# Altium footprint library Audio - Microphones.PcbLib: 11 footprints
Each footprint in its own frame and in the unit in brackets; x right, y up, seen from the top. Pads: shape width x height; smd on the part's side, far side on the other; paste and mask are expansions set on the pad; w line width, h text height; cw(c..) or ccw(c..) is an arc to the next point about the centre after c.
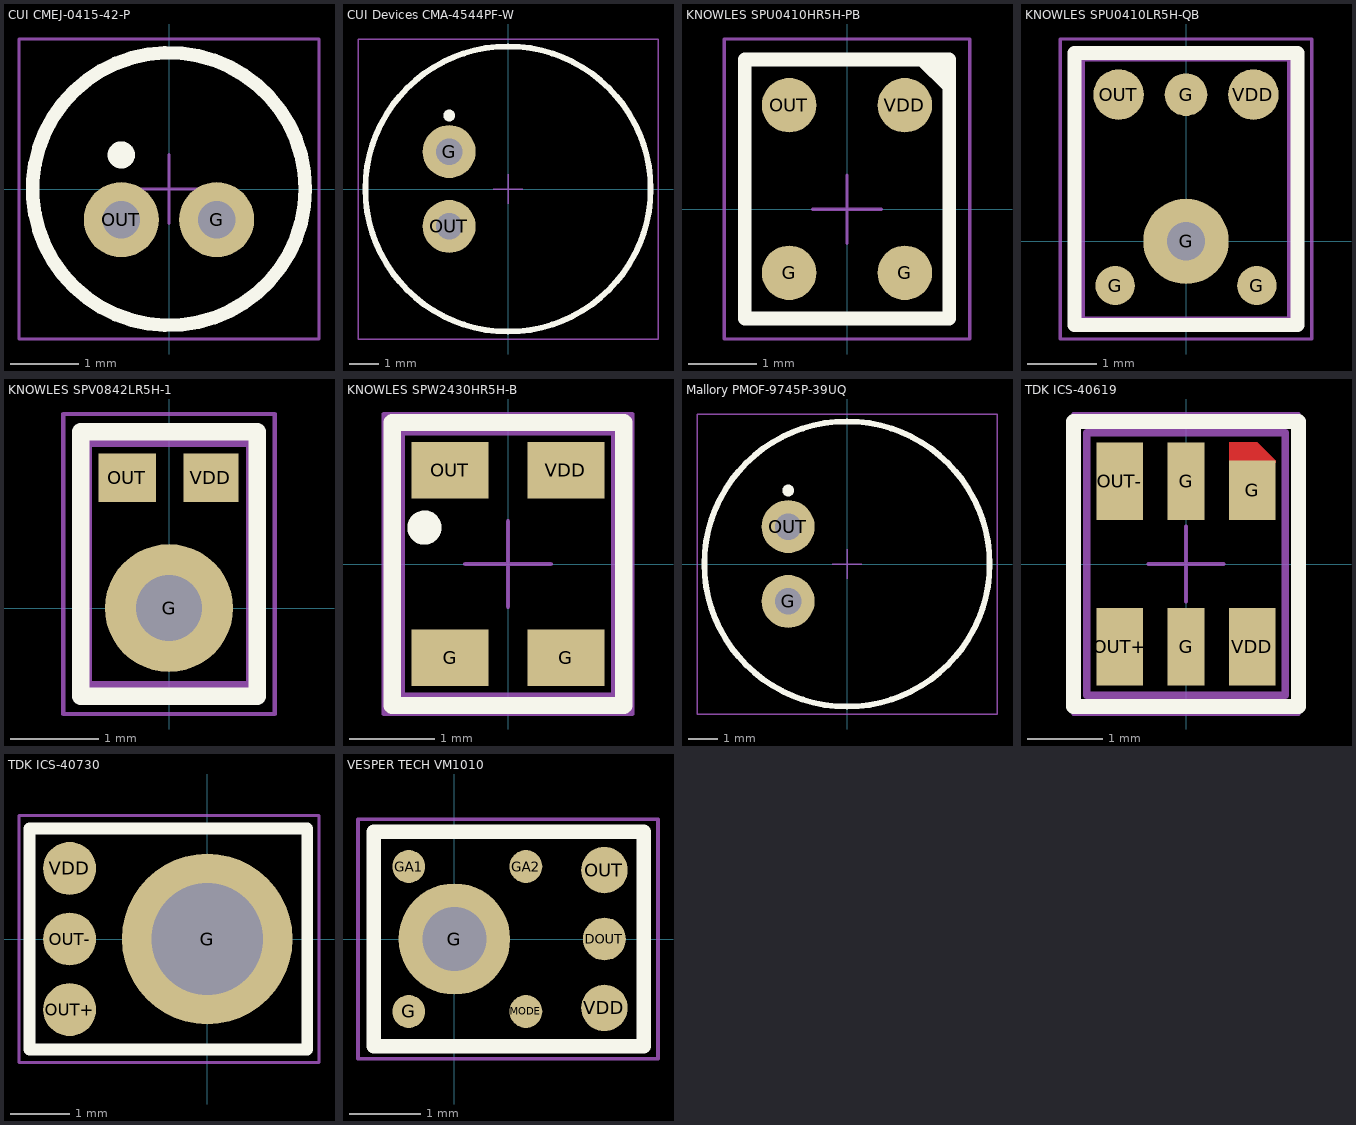
[diagram p0: the footprints below, top view; thin cyan lines are the x and y axes]

## CUI CMEJ-0415-42-P [mm] "MIC COND ANALOG OMNI -42DB 4MM D"
height 1
pads (2):
  round 1.1 hole 0.55 mask+0.102: G(0.7,-0.45) OUT(-0.7,-0.45)
Top Overlay:
  circle w0.2: c-0.7,0.5 r0.1
  circle w0.2: c0,0 r2
Mechanical 13:
  circle w0.1: c0,0 r2
Mechanical 15:
  lines w0.05: -0.5,0 0.5,0 ; 0,-0.5 0,0.5 ; -2.2,-2.2 2.2,-2.2 2.2,2.2 -2.2,2.2 -2.2,-2.2
3D body "CUI - CMEJ-0415-42-P.step": height 1.83, standoff -2, extent -2,-2 2,2

## CUI Devices CMA-4544PF-W [mm] "Analog Microphone 9.7mm Dia"
height 4.65
pads (2):
  round 1.8 hole 0.9: G(-2,1.27) OUT(-2,-1.27)
Top Overlay:
  circle w0.2: c0,0 r4.85
  circle w0.2: c-2,2.5 r0.1
Mechanical 13:
  circle w0.1: c0,0 r4.85
Mechanical 15:
  lines w0.05: -0.5,0 0.5,0 ; 0,-0.5 0,0.5 ; -5.1,-5.1 -5.1,5.1 5.1,5.1 5.1,-5.1 -5.1,-5.1
3D body "CUI Devices - CMA-4544PF-W.step": height 4.95, standoff -5, extent -4.85,-4.847 4.85,4.847

## KNOWLES SPU0410HR5H-PB [mm] "SiSonicTM Microphone 2.95x3.76mm"
height 1.2
pads (4):
  round 0.8 smd: G(-0.85,-0.93) G(0.85,-0.93) OUT(-0.85,1.53) VDD(0.85,1.53)
Top Overlay:
  region: 1.1,2.2 1.5,2.2 1.5,1.8
  lines w0.2: 1.1,2.2 1.5,1.8 ; -1.5,-1.6 1.5,-1.6 1.5,2.2 -1.5,2.2 -1.5,-1.6
Mechanical 13:
  lines w0.1: -1.475,-1.58 1.475,-1.58 1.475,2.18 -1.475,2.18 -1.475,-1.58
Mechanical 15:
  lines w0.05: -0.5,0 0.5,0 ; 0,-0.5 0,0.5 ; -1.8,-1.9 1.8,-1.9 1.8,2.5 -1.8,2.5 -1.8,-1.9
3D body "Knowles - SPU0410HR5H-PB.step": height 1.2, standoff 0, extent -1.475,-1.58 1.475,2.18

## KNOWLES SPU0410LR5H-QB [mm] "SiSonicTM Microphone 3.76x3.00"
height 1.2
pads (6):
  round 0.562 smd: G(-1.015,-0.634) G(1.015,-0.634)
  round 1.224 hole 0.55 unplated mask+0.102: G(0,0)
  round 0.612 smd: G(0,2.103)
  round 0.723 smd: OUT(-0.966,2.103) VDD(0.966,2.103)
Top Overlay:
  lines w0.2: -1.6,-1.2 -1.6,2.7 1.6,2.7 1.6,-1.2 -1.6,-1.2
Top Paste:
  region: 0.075,0.6 0.126,0.597 0.224,0.572 0.315,0.529 0.396,0.468 0.43,0.43 0.468,0.396 0.528,0.315 0.572,0.224 0.597,0.126 0.6,0.075 0.35,0.075 0.347,0.101 0.333,0.152 0.31,0.199 0.278,0.241 0.259,0.259 0.241,0.278 0.199,0.31 0.152,0.333 0.101,0.347 0.075,0.35
  region: 0.6,-0.075 0.597,-0.126 0.572,-0.224 0.529,-0.315 0.468,-0.396 0.43,-0.43 0.396,-0.468 0.315,-0.528 0.224,-0.572 0.126,-0.597 0.075,-0.6 0.075,-0.35 0.101,-0.347 0.152,-0.333 0.199,-0.31 0.241,-0.278 0.259,-0.259 0.278,-0.241 0.31,-0.199 0.333,-0.152 0.347,-0.101 0.35,-0.075
  region: -0.6,0.075 -0.597,0.126 -0.572,0.224 -0.529,0.315 -0.468,0.396 -0.43,0.43 -0.396,0.468 -0.315,0.528 -0.224,0.572 -0.126,0.597 -0.075,0.6 -0.075,0.35 -0.101,0.347 -0.152,0.333 -0.199,0.31 -0.241,0.278 -0.259,0.259 -0.278,0.241 -0.31,0.199 -0.333,0.152 -0.347,0.101 -0.35,0.075
  region: -0.075,-0.6 -0.126,-0.597 -0.224,-0.572 -0.315,-0.529 -0.396,-0.468 -0.43,-0.43 -0.468,-0.396 -0.528,-0.315 -0.572,-0.224 -0.597,-0.126 -0.6,-0.075 -0.35,-0.075 -0.347,-0.101 -0.333,-0.152 -0.31,-0.199 -0.278,-0.241 -0.259,-0.259 -0.241,-0.278 -0.199,-0.31 -0.152,-0.333 -0.101,-0.347 -0.075,-0.35
Top Solder:
  region: 0,0.6 -0.119,0.6 -0.34,0.509 -0.509,0.34 -0.6,0.119 -0.6,0 -0.6,-0.119 -0.509,-0.34 -0.34,-0.509 -0.119,-0.6 0,-0.6 0,-0.325 -0.063,-0.319 -0.181,-0.27 -0.27,-0.181 -0.319,-0.063 -0.325,0 -0.319,0.063 -0.27,0.181 -0.181,0.27 -0.063,0.319 0,0.325
  region: 0,0.6 0.119,0.6 0.34,0.509 0.509,0.34 0.6,0.119 0.6,0 0.6,-0.119 0.509,-0.34 0.34,-0.509 0.119,-0.6 0,-0.6 0,-0.325 0.063,-0.319 0.181,-0.27 0.27,-0.181 0.319,-0.063 0.325,0 0.319,0.063 0.27,0.181 0.181,0.27 0.063,0.319 0,0.325
Mechanical 1:
  lines w0.1: -1.5,-1.13 -1.5,2.625 1.5,2.625 1.5,-1.13 -1.5,-1.13
Mechanical 15:
  lines w0.05: -0.5,0 0.5,0 ; 0,-0.5 0,0.5 ; -1.8,-1.4 -1.8,2.9 1.8,2.9 1.8,-1.4 -1.8,-1.4
3D body "Knowles SPU0410LR5H-QB-7.step": height 1.2, standoff 0, extent -1.5,-1.13 1.5,2.63

## KNOWLES SPV0842LR5H-1 [mm] "SiSonicTM Microphone 2.75x1.85mm"
height 1
pads (3):
  round 1.45 hole 0.75 unplated paste+0 mask+0: G(0,0)
  rect 0.65x0.545 smd: OUT(-0.475,1.478)
  rect 0.625x0.545 smd: VDD(0.475,1.478)
Top Overlay:
  lines w0.2: -1,-1 -1,2 1,2 1,-1 -1,-1
Top Paste:
  drawing of 4 lines, arcs and shapes, not listed
Top Solder:
  circle w0.25: c0,0 r0.6
Mechanical 13:
  lines w0.1: -0.925,-0.875 -0.925,1.875 0.925,1.875 0.925,-0.875 -0.925,-0.875
Mechanical 15:
  lines w0.05: -0.5,0 0.5,0 ; 0,-0.5 0,0.5 ; -1.2,-1.2 -1.2,2.2 1.2,2.2 1.2,-1.2 -1.2,-1.2
3D body "Knowles - SPV0842LR5H-1.step": height 1, standoff 0, extent -0.925,-0.875 0.925,1.875

## KNOWLES SPW2430HR5H-B [mm] "SiSonicTM Microphone 3.1x2.5mm"
height 1
pads (4):
  rect 0.9x0.66 smd: G(-0.675,-1.095) G(0.675,-1.095) OUT(-0.675,1.095) VDD(0.675,1.095)
Top Overlay:
  circle w0.2: c-0.975,0.425 r0.1
  lines w0.2: -1.35,-1.65 1.35,-1.65 1.35,1.65 -1.35,1.65 -1.35,-1.65
Mechanical 13:
  lines w0.1: -1.25,-1.55 1.25,-1.55 1.25,1.55 -1.25,1.55 -1.25,-1.55
Mechanical 15:
  lines w0.05: -0.5,0 0.5,0 ; 0,-0.5 0,0.5 ; -1.45,-1.75 1.45,-1.75 1.45,1.75 -1.45,1.75 -1.45,-1.75
3D body "Knowles - SPW2430HR5H-B.step": height 1.1, standoff 0, extent -1.25,-1.55 1.25,1.55

## Mallory PMOF-9745P-39UQ [mm] "MIC MAG ANLG OMNI -39DB 9.7MM D"
height 5
pads (2):
  round 1.8 hole 0.9 mask+0.102: G(-2,-1.27) OUT(-2,1.27)
Top Overlay:
  circle w0.2: c0,0 r4.85
  circle w0.2: c-2,2.5 r0.1
Mechanical 13:
  circle w0.1: c0,0 r4.85
Mechanical 15:
  lines w0.05: -0.5,0 0.5,0 ; 0,-0.5 0,0.5 ; -5.1,-5.1 -5.1,5.1 5.1,5.1 5.1,-5.1 -5.1,-5.1
3D body "Mallory - PMOF-9745P-39UQ.step": height 4.95, standoff -4.8, extent -4.847,-4.85 4.846,4.85

## PCBComponent_1 [mm]

## TDK ICS-40619 [mm] "Ultra-Low Noise Microphone with Differential Output 3.5x2.65"
height 0.98
pads (6):
  rect 0.5x1.032 smd: G(0,-1.105) G(0,1.105)
  rect 0.622x0.792 smd: G(0.884,0.985)
  rect 0.622x1.032 smd: OUT+(-0.884,-1.105) OUT-(-0.884,1.105) VDD(0.884,-1.105)
Top Layer:
  region: 0.575,1.35 0.575,1.625 0.949,1.625 1.194,1.38 1.194,1.35
Top Overlay:
  lines w0.2: -1.5,-1.9 1.5,-1.9 1.5,1.9 -1.5,1.9 -1.5,-1.9
Mechanical 13:
  lines w0.1: -1.325,-1.75 -1.325,1.75 1.325,1.75 1.325,-1.75 -1.325,-1.75
Mechanical 15:
  lines w0.05: -0.5,0 0.5,0 ; 0,-0.5 0,0.5 ; -1.5,-2 -1.5,2 1.5,2 1.5,-2 -1.5,-2
3D body "TDK - ICS-40619.step": height 1.08, standoff 0, extent -1.325,-1.75 1.325,1.75

## TDK ICS-40730 [mm] "MICROPHONE MEMS ANALOG NC -32DB 4.72mm x 3.76mm"
height 3.6
pads (4):
  round 2.9 hole 1.9 unplated paste+0 mask+0: G(0,0)
  round 0.9 smd paste-0.125: OUT+(-2.34,-1.2) OUT-(-2.34,0) VDD(-2.34,1.2)
Top Overlay:
  lines w0.2: -3.02,-1.88 1.7,-1.88 1.7,1.88 -3.02,1.88 -3.02,-1.88
Top Paste:
  lines w0.3: -1.28,-0.226 ccw(c0,0) -0.226,-1.28 ; -1.28,0.226 cw(c0,0) -0.226,1.28 ; 0.226,-1.28 ccw(c0,0) 1.28,-0.226 ; 0.226,1.28 cw(c0,0) 1.28,0.226
Top Solder:
  circle w0.3: c0,0 r1.3
Mechanical 13:
  lines w0.1: -3.02,-1.88 1.7,-1.88 1.7,1.88 -3.02,1.88 -3.02,-1.88
Mechanical 15:
  lines w0.05: -0.5,0 0.5,0 ; 0,-0.5 0,0.5 ; -3.2,-2.1 1.9,-2.1 1.9,2.1 -3.2,2.1 -3.2,-2.1
3D body "TDK - ICS-40730.step": height 3.6, standoff 0, extent -3.02,-1.88 1.7,1.88

## VESPER TECH VM1010 [mm] "MIC PIEZO MEMS ANALOG OMNI 3.76mm x 2.95mm"
height 1.4
pads (8):
  round 0.6 smd: DOUT(2.1,0)
  round 0.46 smd: G(-0.64,-1.015) GA1(-0.64,1.015) GA2(1,1.015) MODE(1,-1.015)
  round 1.56 hole 0.9 unplated paste+0 mask+0: G(0,0)
  round 0.65 smd: OUT(2.1,0.965) VDD(2.1,-0.965)
Top Overlay:
  lines w0.2: -1.13,-1.5 -1.13,1.5 2.65,1.5 2.65,-1.5 -1.13,-1.5
Top Paste:
  lines w0.25: -0.633,-0.17 ccw(c0,0) -0.17,-0.633 ; -0.633,0.17 cw(c0,0) -0.17,0.633 ; 0.17,-0.633 ccw(c0,0) 0.633,-0.17 ; 0.17,0.633 cw(c0,0) 0.633,0.17
Top Solder:
  circle w0.25: c0,0 r0.655
Mechanical 13:
  lines w0.1: -1.13,-1.475 -1.13,1.475 2.63,1.475 2.63,-1.475 -1.13,-1.475
Mechanical 15:
  lines w0.05: -1.35,-1.675 -1.35,1.675 2.85,1.675 2.85,-1.675 -1.35,-1.675 ; -0.5,0 0.5,0 -0.5,0 ; 0,-0.5 0,0.5 0,-0.5
3D body "Vesper Tech - VM1010.step": height 1.4, standoff 0, extent -1.13,-1.475 2.63,1.475